# EAGLE library part MAX481C (library maxim)
RS485 TRANSEIVER
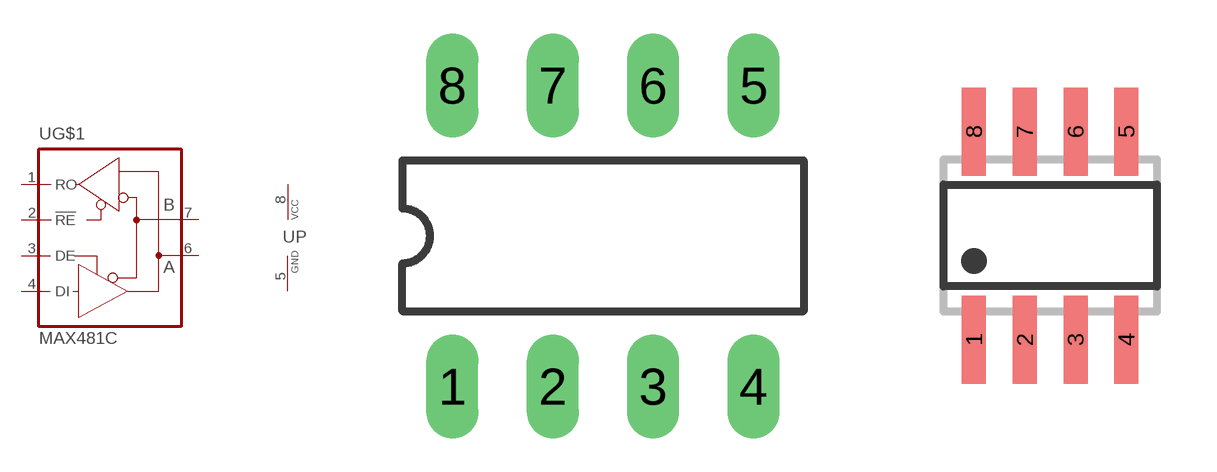
[diagram p352: symbol with the pads of DIL08; footprints DIL08, SO08]

Designator prefix U; gates G$1=MAX481 P=VCC-GND

## MAX481CP  [DIL08]
1  G$1:RO  out
2  G$1:!RE!  in
3  G$1:DE  in
4  G$1:DI  in
5  P:GND  pwr
6  G$1:A  pas
7  G$1:B  pas
8  P:VCC  pwr

## MAX481CS  [SO08]
Pads as for DIL08

## Footprint DIL08 (pad centres in mm)
Dual In Line Package
drill 0.813 long: 1 -3.81,-3.81; 2 -1.27,-3.81; 3 1.27,-3.81; 4 3.81,-3.81; 5 3.81,3.81; 6 1.27,3.81; 7 -1.27,3.81; 8 -3.81,3.81

## Footprint SO08 (pad centres in mm)
SMALL OUTLINE INTEGRATED CIRCUIT body 3.9 mm/JEDEC MS-012AA
smd 0.6 x 2.2: 1 -1.905,-2.6; 2 -0.635,-2.6; 3 0.635,-2.6; 4 1.905,-2.6; 5 1.905,2.6; 6 0.635,2.6; 7 -0.635,2.6; 8 -1.905,2.6